# Altium schematic symbol library Connectors - USB DVI HDMI.SchLib: 20 symbols
Pins are listed as number, name and electrical type; pins without a type are passive.

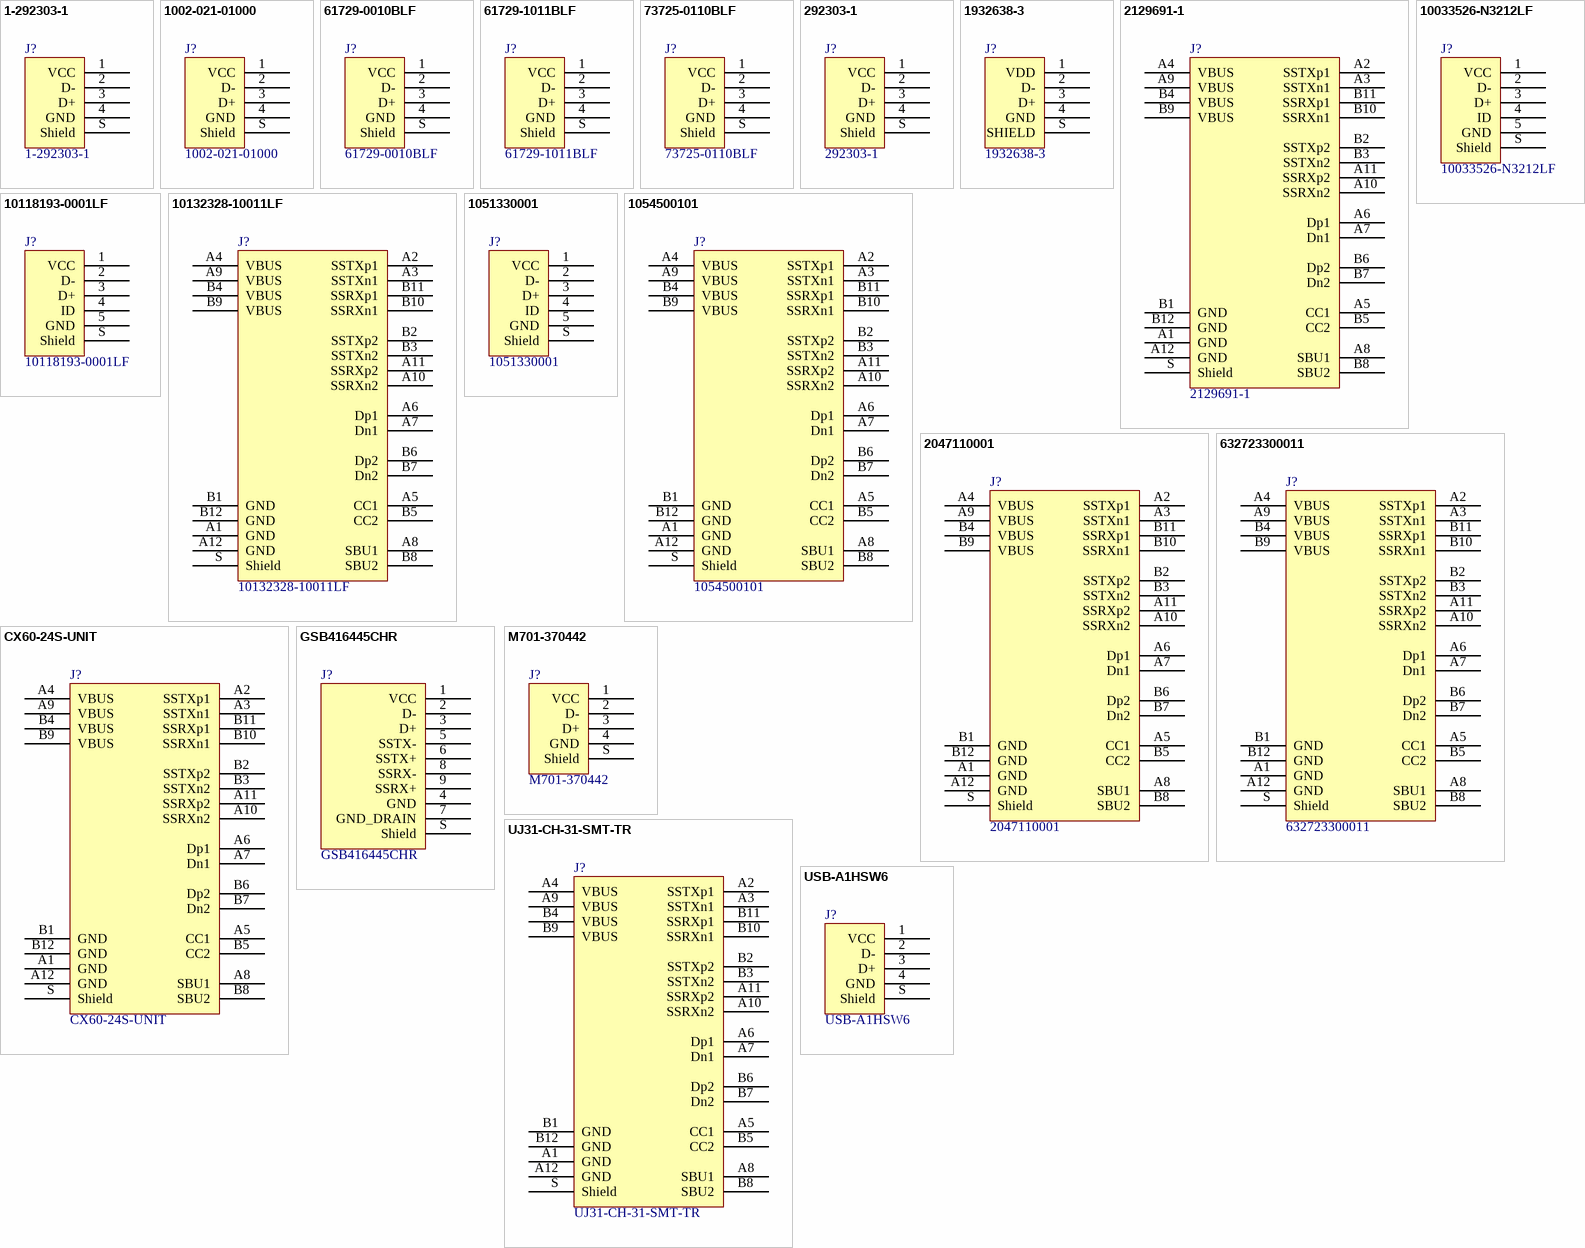
[diagram p0: symbols 1-292303-1 to USB-A1HSW6]

## 1-292303-1
designator J?
CONN RCPT USB2.0 TYPEA 4P SMD RA; Manufacturer: TE Connectivity AMP Connectors; Connector Type: USB - A; Current Rating (Amps): 1A per Contact; Gender: Receptacle; Mating Cycles: 1500; Number of Contacts: 4; Number of Ports: 1; Shielding: Shielded; Voltage - Rated: 30VAC; Part Number: 1-292303-1; ComponentLink1Description: Datasheet; ComponentLink1URL: https://www.te.com/commerce/DocumentDelivery/DDEController?Action=srchrtrv&DocNm=292303&DocType=Customer+Drawing&DocLang=English; ComponentLink2Description: DigiKey Link; ComponentLink2URL: http://digikey.com/product-detail/en/te-connectivity-amp-connectors/1-292303-1/A127890-ND/5273302; Features: Board Lock; LastUpdated: 4/30/2020 11:59:17 AM; Lifecycle Status: Active; Minimum Order: 1; Mounting Feature: Horizontal; Mounting Type: Surface Mount, Right Angle; Through Hole; Operating Temperature: -55°C ~ 85°C; Packaging: Tray; Part Status: Active; Price: 2.37; Series: -; Specifications: USB 2.0; Supplier 1: DigiKey; Supplier Part Number 1: A127890-ND; Termination: Solder
footprint TE 292303-1
pins: 1 VCC, 2 D-, 3 D+, 4 GND, S Shield

## 1002-021-01000
designator J?
CONN RCPT USB2.0 TYPEA 4POS VERT; Manufacturer: CNC Tech; Connector Type: USB - A; Current Rating (Amps): 1.5A; Gender: Receptacle; Mating Cycles: 1500; Number of Contacts: 4; Number of Ports: 1; Voltage - Rated: 30V; Part Number: 1002-021-01000; ComponentLink1Description: Datasheet; ComponentLink1URL: http://www.cnctech.us/pdfs/1002-021-01000.pdf; ComponentLink2Description: DigiKey Link; ComponentLink2URL: http://digikey.com/product-detail/en/cnc-tech/1002-021-01000/1175-1265-ND/3466946; Features: Board Lock; LastUpdated: 4/30/2020 12:00:08 PM; Lifecycle Status: Active; Minimum Order: 1; Mounting Feature: Vertical; Mounting Type: Through Hole; Operating Temperature: -55°C ~ 85°C; Packaging: Tray; Part Status: Active; Price: 1.02; Series: -; Specifications: USB 2.0; Supplier 1: DigiKey; Supplier Part Number 1: 1175-1265-ND; Termination: Solder
footprint CNC TECH 1002-021-01000
pins: 1 VCC, 2 D-, 3 D+, 4 GND, S Shield

## 61729-0010BLF
designator J?
CONN RCPT USB2.0 TYPEB 4POS R/A; Manufacturer: Amphenol ICC (FCI); Connector Type: USB - B; Current Rating (Amps): 1A; Gender: Receptacle; Mating Cycles: 1500; Number of Contacts: 4; Number of Ports: 1; Shielding: Shielded; Part Number: 61729-0010BLF; ComponentLink1Description: Datasheet; ComponentLink1URL: http://www.amphenol-icc.com/media/wysiwyg/files/drawing/61729.pdf; ComponentLink2Description: DigiKey Link; ComponentLink2URL: //digikey.com/product-detail/en/amphenol-icc-fci/61729-0010BLF/609-1039-ND/1001353; Features: Board Lock; LastUpdated: 12/9/2019 8:53:17 PM; Lifecycle Status: 0; Minimum Order: 1; Mounting Feature: Horizontal; Mounting Type: Through Hole, Right Angle; Operating Temperature: -55°C ~ 85°C; Packaging: Tube; Part Status: Active; Price: 0.99; Series: 61729; Specifications: USB 2.0; Supplier 1: DigiKey; Supplier Part Number 1: 609-1039-ND; Termination: Solder
footprint FCI USB 61729-0010BLF
pins: 1 VCC, 2 D-, 3 D+, 4 GND, S Shield

## 61729-1011BLF
designator J?
CONN RCPT USB2.0 TYPEB 4POS R/A; Manufacturer: Amphenol ICC (FCI); Connector Type: USB - B; Current Rating (Amps): 1A; Gender: Receptacle; Mating Cycles: 1500; Number of Contacts: 4; Number of Ports: 1; Shielding: Shielded; Part Number: 61729-1011BLF; ComponentLink1Description: Datasheet; ComponentLink1URL: http://www.amphenol-icc.com/media/wysiwyg/files/drawing/61729.pdf; ComponentLink2Description: DigiKey Link; ComponentLink2URL: //digikey.com/product-detail/en/amphenol-icc-fci/61729-1011BLF/609-3657-ND/1490763; Features: Board Lock; LastUpdated: 12/9/2019 8:52:52 PM; Lifecycle Status: 0; Minimum Order: 1; Mounting Feature: Horizontal; Mounting Type: Through Hole, Right Angle; Operating Temperature: -55°C ~ 85°C; Packaging: Tube; Part Status: Active; Price: 0.99; Series: 61729; Specifications: USB 2.0; Supplier 1: DigiKey; Supplier Part Number 1: 609-3657-ND; Termination: Solder
footprint FCI USB 61729-1011BLF
pins: 1 VCC, 2 D-, 3 D+, 4 GND, S Shield

## 73725-0110BLF
designator J?
CONN RCPT USB2.0 TYPEA 4POS R/A; Manufacturer: Amphenol ICC (FCI); Connector Type: USB - A; Current Rating (Amps): 2.5A; Gender: Receptacle; Mating Cycles: 1500; Number of Contacts: 4; Number of Ports: 1; Shielding: Shielded; Part Number: 73725-0110BLF; ComponentLink1Description: Datasheet; ComponentLink1URL: http://www.amphenol-icc.com/media/wysiwyg/files/drawing/73725.pdf; ComponentLink2Description: DigiKey Link; ComponentLink2URL: http://digikey.com/product-detail/en/amphenol-icc-fci/73725-0110BLF/609-1041-ND/1001355; Features: Board Lock; LastUpdated: 4/30/2020 11:56:05 AM; Lifecycle Status: Active; Minimum Order: 1; Mounting Feature: Vertical; Mounting Type: Through Hole, Right Angle; Operating Temperature: -55°C ~ 85°C; Packaging: Tube; Part Status: Active; Price: 0.91; Series: 73725; Specifications: USB 2.0; Supplier 1: DigiKey; Supplier Part Number 1: 609-1041-ND; Termination: Solder
footprint AMPHENOL USB 73725-0110BLF
pins: 1 VCC, 2 D-, 3 D+, 4 GND, S Shield

## 292303-1
designator J?
CONN RCPT USB2.0 TYPEA 4POS R/A; Manufacturer: TE Connectivity AMP Connectors; Connector Type: USB - A; Current Rating (Amps): 1A per Contact; Gender: Receptacle; Mating Cycles: 1500; Number of Contacts: 4; Number of Ports: 1; Shielding: Shielded; Voltage - Rated: 30VAC; Part Number: 292303-1; ComponentLink1Description: Datasheet; ComponentLink1URL: https://www.te.com/commerce/DocumentDelivery/DDEController?Action=srchrtrv&DocNm=292303&DocType=Customer+Drawing&DocLang=English; ComponentLink2Description: DigiKey Link; ComponentLink2URL: http://digikey.com/product-detail/en/te-connectivity-amp-connectors/292303-1/A31726-ND/773786; Features: Board Lock; LastUpdated: 4/30/2020 11:59:03 AM; Lifecycle Status: Active; Minimum Order: 1; Mounting Feature: Horizontal; Mounting Type: Through Hole, Right Angle; Operating Temperature: -55°C ~ 85°C; Packaging: Tube; Part Status: Active; Price: 1.48; Specifications: USB 2.0; Supplier 1: DigiKey; Supplier Part Number 1: A31726-ND; Termination: Solder
footprint TE 292303-1
pins: 1 VCC, 2 D-, 3 D+, 4 GND, S Shield

## 1932638-3
designator J?
CONN RCPT USB2.0 TYPEA 4P SMD RA; Manufacturer: TE Connectivity AMP Connectors; Connector Type: USB - A; Current Rating (Amps): 1A per Contact; Gender: Receptacle; Mating Cycles: 1500; Number of Contacts: 4; Number of Ports: 1; Shielding: Shielded; Voltage - Rated: 30VAC; Part Number: 1932638-3; ComponentLink1Description: Datasheet; ComponentLink1URL: https://www.te.com/commerce/DocumentDelivery/DDEController?Action=srchrtrv&DocNm=501-60007-1&DocType=SS&DocLang=EN; ComponentLink2Description: DigiKey Link; ComponentLink2URL: //digikey.com/product-detail/en/te-connectivity-amp-connectors/1932638-3/A117902TR-ND/4731612; Features: Solder Retention; LastUpdated: 12/9/2019 8:47:08 PM; Lifecycle Status: 0; Minimum Order: 1; Mounting Feature: Horizontal; Mounting Type: Surface Mount, Right Angle; Operating Temperature: -55°C ~ 85°C; Packaging: TapeAndReel; Part Status: Active; Price: 0.97; Series: -; Specifications: USB 2.0; Supplier 1: DigiKey; Supplier Part Number 1: A117902TR-ND; Termination: Solder
footprint TE 1932638-3 USB2.0A
pins: 1 VDD, 2 D-, 3 D+, 4 GND, S SHIELD

## 2129691-1
designator J?
CONN RCPT USB3.1 TYPEC 24POS SMD; Manufacturer: TE Connectivity AMP Connectors; Connector Type: USB - C (Type - C); Current Rating (Amps): 0.25A, 1.25A, 5A; Gender: Receptacle; Mating Cycles: 10000; Number of Contacts: 24; Number of Ports: 1; Specifications: USB 3.1 (USB 3.1 Gen 2, Superspeed+); Voltage - Rated: 30V; Part Number: 2129691-1; ComponentLink1Description: Datasheet; ComponentLink1URL: //media.digikey.com/pdf/Data%20Sheets/Tyco%20Electonics%20AMP%20PDFs/2129691_Dwg.pdf; ComponentLink2Description: DigiKey Link; ComponentLink2URL: //digikey.com/product-detail/en/te-connectivity-amp-connectors/2129691-1/A122008TR-ND/5401336; LastUpdated: 12/9/2019 8:50:18 PM; Lifecycle Status: 0; Minimum Order: 1; Mounting Feature: Horizontal, Mid Mount; Mounting Type: Board Edge, Cutout; Surface Mount; Through Hole, Right Angle; Operating Temperature: -30°C ~ 85°C; Packaging: TapeAndReel; Part Status: Active; Price: 1.67; Series: -; Supplier 1: DigiKey; Supplier Part Number 1: A122008TR-ND; Termination: Solder
footprint TE USB-C 2129691-1
pins: A1 GND, A2 SSTXp1, A3 SSTXn1, A4 VBUS, A5 CC1, A6 Dp1, A7 Dn1, A8 SBU1, A9 VBUS, A10 SSRXn2, A11 SSRXp2, A12 GND, B1 GND, B2 SSTXp2, B3 SSTXn2, B4 VBUS, B5 CC2, B6 Dp2, B7 Dn2, B8 SBU2, B9 VBUS, B10 SSRXn1, B11 SSRXp1, B12 GND, S Shield

## 10033526-N3212LF
designator J?
CONN RCPT MINI USB B 5POS SMD RA; Manufacturer: Amphenol ICC (FCI); Connector Type: USB - mini B; Current Rating (Amps): 1A per Contact; Gender: Receptacle; Mating Cycles: 5000; Number of Contacts: 5; Number of Ports: 1; Shielding: Shielded; Voltage - Rated: 30V; Part Number: 10033526-N3212LF; ComponentLink1Description: Datasheet; ComponentLink1URL: http://www.amphenol-icc.com/media/wysiwyg/files/drawing/10033526.pdf; ComponentLink2Description: DigiKey Link; ComponentLink2URL: //digikey.com/product-detail/en/amphenol-icc-fci/10033526-N3212LF/609-4700-2-ND/4292074; Features: Board Guide, Solder Retention; LastUpdated: 12/9/2019 8:52:14 PM; Lifecycle Status: 0; Minimum Order: 1; Mounting Feature: Horizontal; Mounting Type: Surface Mount, Right Angle; Operating Temperature: -25°C ~ 85°C; Packaging: TapeAndReel; Part Status: Active; Price: 0.39; Series: -; Supplier 1: DigiKey; Supplier Part Number 1: 609-4700-2-ND; Termination: Solder
footprint FCI USB 10033526-N3212LF
pins: 1 VCC, 2 D-, 3 D+, 4 ID, 5 GND, S Shield

## 10118193-0001LF
designator J?
CONN RCPT USB2.0 MICRO B SMD R/A; Manufacturer: Amphenol ICC (FCI); Connector Type: USB - micro B; Current Rating (Amps): 1.8A per Contact; Gender: Receptacle; Mating Cycles: 10000; Number of Contacts: 5; Number of Ports: 1; Shielding: Shielded; Voltage - Rated: 100VAC; Part Number: 10118193-0001LF; ComponentLink1Description: Datasheet; ComponentLink1URL: https://cdn.amphenol-icc.com/media/wysiwyg/files/documentation/datasheet/inputoutput/io_usb_micro.pdf; ComponentLink2Description: DigiKey Link; ComponentLink2URL: //digikey.com/product-detail/en/amphenol-icc-fci/10118193-0001LF/609-4616-2-ND/2785388; Features: Solder Retention; LastUpdated: 12/9/2019 8:51:28 PM; Lifecycle Status: 0; Minimum Order: 1; Mounting Feature: Horizontal; Mounting Type: Surface Mount, Right Angle; Through Hole; Operating Temperature: -30°C ~ 80°C; Packaging: TapeAndReel; Part Status: Active; Price: 0.21; Series: -; Specifications: USB 2.0; Supplier 1: DigiKey; Supplier Part Number 1: 609-4616-2-ND; Termination: Solder
footprint FCI USB 10118193-0001LF
pins: 1 VCC, 2 D-, 3 D+, 4 ID, 5 GND, S Shield

## 10132328-10011LF
designator J?
CONN RCPT USB3.1 TYPEC 24POS SMD; Manufacturer: Amphenol ICC (FCI); Connector Type: USB - C (Type - C); Gender: Receptacle; Mating Cycles: 10000; Number of Contacts: 24; Number of Ports: 1; Shielding: Shielded; Specifications: USB 3.1 (USB 3.1 Gen 2, Superspeed+); Voltage - Rated: 100VAC; Part Number: 10132328-10011LF; ComponentLink1Description: Datasheet; ComponentLink1URL: http://www.amphenol-icc.com/media/wysiwyg/files/drawing/10132328.pdf; ComponentLink2Description: DigiKey Link; ComponentLink2URL: http://digikey.com/product-detail/en/amphenol-icc-fci/10132328-10011LF/609-5380-1-ND/8555651; Features: Board Guide, Solder Retention; LastUpdated: 6/6/2020 2:13:23 AM; Lifecycle Status: Active; Minimum Order: 1; Mounting Feature: Vertical; Mounting Type: Surface Mount, Through Hole; Operating Temperature: -55°C ~ 85°C; Packaging: TapeAndReel; Part Status: Active; Price: 1.76; Series: -; Supplier 1: DigiKey; Supplier Part Number 1: 609-5380-1-ND; Termination: Solder
footprint Amphenol ICC 10132328-10011LF
pins: A1 GND, A2 SSTXp1, A3 SSTXn1, A4 VBUS, A5 CC1, A6 Dp1, A7 Dn1, A8 SBU1, A9 VBUS, A10 SSRXn2, A11 SSRXp2, A12 GND, B1 GND, B2 SSTXp2, B3 SSTXn2, B4 VBUS, B5 CC2, B6 Dp2, B7 Dn2, B8 SBU2, B9 VBUS, B10 SSRXn1, B11 SSRXp1, B12 GND, S Shield

## 1051330001
designator J?
CONN RCPT USB2.0 MICRO B SMD; Manufacturer: Molex; Connector Type: USB - micro B; Current Rating (Amps): 1A, 1.8A; Gender: Receptacle; Mating Cycles: 10000; Number of Contacts: 5; Number of Ports: 1; Shielding: Shielded; Voltage - Rated: 30VAC; Part Number: 1051330001; ComponentLink1Description: Datasheet; ComponentLink1URL: https://www.molex.com/pdm_docs/sd/1051330001_sd.pdf; ComponentLink2Description: DigiKey Link; ComponentLink2URL: http://digikey.com/product-detail/en/molex/1051330001/WM9734CT-ND/4037910; Features: Pick and Place; LastUpdated: 6/6/2020 2:11:37 AM; Lifecycle Status: Active; Minimum Order: 1; Mounting Feature: Vertical; Mounting Type: Surface Mount; Operating Temperature: -35°C ~ 85°C; Packaging: TapeAndReel; Part Status: Active; Price: 0.63; Series: 105133; Specifications: USB 2.0; Supplier 1: DigiKey; Supplier Part Number 1: WM9734CT-ND; Termination: Solder
footprint MOLEX 1051330001
pins: 1 VCC, 2 D-, 3 D+, 4 ID, 5 GND, S Shield

## 1054500101
designator J?
CONN RCP USB3.1 TYPEC 24P SMD RA; Manufacturer: Molex; Connector Type: USB - C (Type - C); Current Rating (Amps): 0.25A, 1A, 5A; Gender: Receptacle; Mating Cycles: 10000; Number of Contacts: 24; Number of Ports: 1; Shielding: Shielded; Specifications: USB 3.1 (USB 3.1 Gen 2, Superspeed+); Voltage - Rated: 30VAC/DC; Part Number: 1054500101; ComponentLink1Description: Datasheet; ComponentLink1URL: https://www.molex.com/pdm_docs/ps/PS-105448-001.pdf; ComponentLink2Description: DigiKey Link; ComponentLink2URL: http://digikey.com/product-detail/en/molex/1054500101/WM12856CT-ND/5843891; LastUpdated: 6/6/2020 2:14:04 AM; Lifecycle Status: Active; Minimum Order: 1; Mounting Feature: Horizontal; Mounting Type: Surface Mount, Right Angle; Through Hole; Operating Temperature: -30°C ~ 85°C; Packaging: TapeAndReel; Part Status: Active; Price: 1.22; Series: 105445; Supplier 1: DigiKey; Supplier Part Number 1: WM12856CT-ND; Termination: Solder
footprint Molex 1054500101
pins: A1 GND, A2 SSTXp1, A3 SSTXn1, A4 VBUS, A5 CC1, A6 Dp1, A7 Dn1, A8 SBU1, A9 VBUS, A10 SSRXn2, A11 SSRXp2, A12 GND, B1 GND, B2 SSTXp2, B3 SSTXn2, B4 VBUS, B5 CC2, B6 Dp2, B7 Dn2, B8 SBU2, B9 VBUS, B10 SSRXn1, B11 SSRXp1, B12 GND, S Shield

## 2047110001
designator J?
USB VERTICAL TYPE C 3.1; Manufacturer: Molex; Connector Type: USB - C (Type - C); Current Rating (Amps): 0.25A, 1.25A, 5A; Gender: Receptacle; Mating Cycles: 10000; Number of Contacts: 24; Number of Ports: 1; Shielding: Shielded; Specifications: USB 3.1 (USB 3.1 Gen 2, Superspeed+); Voltage - Rated: 30VAC/DC; Part Number: 2047110001; ComponentLink1Description: Datasheet; ComponentLink1URL: https://www.molex.com/webdocs/datasheets/pdf/en-us/2047110001_IO_CONNECTORS.pdf; ComponentLink2Description: DigiKey Link; ComponentLink2URL: http://digikey.com/product-detail/en/molex/2047110001/900-2047110001CT-ND/10440494; Features: Board Lock, Pick and Place Cap; LastUpdated: 6/6/2020 2:12:39 AM; Lifecycle Status: Active; Minimum Order: 1; Mounting Feature: Vertical; Mounting Type: Surface Mount, Through Hole; Operating Temperature: -30°C ~ 85°C; Packaging: CutTape; Part Status: Active; Price: 1.78; Series: 204711; Supplier 1: DigiKey; Supplier Part Number 1: 900-2047110001CT-ND; Termination: Solder
footprint Molex 2047110001
pins: A1 GND, A2 SSTXp1, A3 SSTXn1, A4 VBUS, A5 CC1, A6 Dp1, A7 Dn1, A8 SBU1, A9 VBUS, A10 SSRXn2, A11 SSRXp2, A12 GND, B1 GND, B2 SSTXp2, B3 SSTXn2, B4 VBUS, B5 CC2, B6 Dp2, B7 Dn2, B8 SBU2, B9 VBUS, B10 SSRXn1, B11 SSRXp1, B12 GND, S Shield

## 632723300011
designator J?
CONN RCP USB3.1 TYPEC 24P SMD RA; Manufacturer: Würth Elektronik; Connector Type: USB - C (Type - C); Current Rating (Amps): 5A; Gender: Receptacle; Mating Cycles: 10000; Number of Contacts: 24; Number of Ports: 1; Shielding: Unshielded; Specifications: USB 3.1 (USB 3.1 Gen 2, Superspeed+); Voltage - Rated: 20VDC; Part Number: 632723300011; ComponentLink1Description: Datasheet; ComponentLink1URL: https://katalog.we-online.de/em/datasheet/632723x00011.pdf; ComponentLink2Description: DigiKey Link; ComponentLink2URL: http://digikey.com/product-detail/en/w-rth-elektronik/632723300011/732-9618-1-ND/5806673; LastUpdated: 5/24/2020 10:36:40 PM; Lifecycle Status: Active; Minimum Order: 1; Mounting Feature: Horizontal; Mounting Type: Surface Mount, Right Angle; Through Hole; Operating Temperature: -40°C ~ 105°C; Packaging: TapeAndReel; Part Status: Active; Price: 2.95; Series: WR-COM; Supplier 1: DigiKey; Supplier Part Number 1: 732-9618-1-ND; Termination: Solder
footprint WURTH 632723300011
pins: A1 GND, A2 SSTXp1, A3 SSTXn1, A4 VBUS, A5 CC1, A6 Dp1, A7 Dn1, A8 SBU1, A9 VBUS, A10 SSRXn2, A11 SSRXp2, A12 GND, B1 GND, B2 SSTXp2, B3 SSTXn2, B4 VBUS, B5 CC2, B6 Dp2, B7 Dn2, B8 SBU2, B9 VBUS, B10 SSRXn1, B11 SSRXp1, B12 GND, S Shield

## CX60-24S-UNIT
designator J?
CONN USB 3.1 TYPE C PLUG UNIT; Manufacturer: Hirose Electric Co Ltd; Connector Type: USB - C (Type - C); Current Rating (Amps): 0.25A, 1.25A; Mating Cycles: 10000; Number of Contacts: 24; Number of Ports: 1; Shielding: Shielded; Specifications: USB 3.1 (USB 3.1 Gen 2, Superspeed+); Voltage - Rated: 20VAC; Part Number: CX60-24S-UNIT; ComponentLink1Description: Datasheet; ComponentLink1URL: https://www.hirose.com/product/document?clcode=CL0480-0522-0-00&productname=CX60-SLDA&series=CX&documenttype=Catalog&lang=en&documentid=D52488_en; ComponentLink2Description: DigiKey Link; ComponentLink2URL: http://digikey.com/product-detail/en/hirose-electric-co-ltd/CX60-24S-UNIT/H126317-ND/8561505; Gender: Plug; LastUpdated: 5/24/2020 10:16:49 PM; Lifecycle Status: Active; Minimum Order: 1; Mounting Feature: Horizontal; Mounting Type: Board Edge, Straddle Mount; Operating Temperature: -30°C ~ 85°C; Packaging: Tray; Part Status: Active; Price: 1.86; Series: CX; Supplier 1: DigiKey; Supplier Part Number 1: H126317-ND; Termination: Solder
footprint HIROSE CX60-24S-UNIT
pins: A1 GND, A2 SSTXp1, A3 SSTXn1, A4 VBUS, A5 CC1, A6 Dp1, A7 Dn1, A8 SBU1, A9 VBUS, A10 SSRXn2, A11 SSRXp2, A12 GND, B1 GND, B2 SSTXp2, B3 SSTXn2, B4 VBUS, B5 CC2, B6 Dp2, B7 Dn2, B8 SBU2, B9 VBUS, B10 SSRXn1, B11 SSRXp1, B12 GND, S Shield

## GSB416445CHR
designator J?
CONN PLUG USB3.1 TYPEA 9P SMD RA; Manufacturer: Amphenol ICC (Commercial Products); Connector Type: USB - A; Mating Cycles: 5000; Number of Contacts: 9; Number of Ports: 1; Shielding: Shielded; Specifications: USB 3.1 (USB 3.1 Gen 2, Superspeed+); Part Number: GSB416445CHR; ComponentLink1Description: Datasheet; ComponentLink1URL: //media.digikey.com/pdf/Data%20Sheets/Amphenol%20PDFs/GSB4_Series_USB_31_rev2.pdf; ComponentLink2Description: DigiKey Link; ComponentLink2URL: http://digikey.com/product-detail/en/amphenol-icc-commercial-products/GSB416445CHR/GSB416445CHRCT-ND/4936163; Gender: Plug; LastUpdated: 5/24/2020 10:12:25 PM; Lifecycle Status: Active; Minimum Order: 1; Mounting Feature: Horizontal; Mounting Type: Surface Mount, Right Angle; Through Hole; Packaging: TapeAndReel; Part Status: Active; Price: 0.95; Series: GSB4; Supplier 1: DigiKey; Supplier Part Number 1: GSB416445CHRCT-ND; Termination: Solder
footprint AMPHENOL GSB416445CHR
pins: 1 VCC, 2 D-, 3 D+, 4 GND, 5 SSTX-, 6 SSTX+, 7 GND_DRAIN, 8 SSRX-, 9 SSRX+, S Shield

## M701-370442
designator J?
CONN RCPT USB2.0 TYPEB 4P SMD RA; Manufacturer: Harwin Inc.; Connector Type: USB - B; Current Rating (Amps): 1.5A; Gender: Receptacle; Mating Cycles: 1500; Number of Contacts: 4; Number of Ports: 1; Shielding: Unshielded; Voltage - Rated: 250VAC; Part Number: M701-370442; ComponentLink1Description: Datasheet; ComponentLink1URL: https://cdn.harwin.com/pdfs/M701-370442.pdf; ComponentLink2Description: DigiKey Link; ComponentLink2URL: //digikey.com/product-detail/en/harwin-inc/M701-370442/952-1768-ND/3727737; Features: Board Guide, Solder Retention; LastUpdated: 12/9/2019 8:50:51 PM; Lifecycle Status: 0; Minimum Order: 1; Mounting Feature: Horizontal; Mounting Type: Surface Mount, Right Angle; Packaging: Bulk; Part Status: Active; Price: 1.36; Series: -; Specifications: USB 2.0; Supplier 1: DigiKey; Supplier Part Number 1: 952-1768-ND; Termination: Solder
footprint HARWIN USB M701-370442
pins: 1 VCC, 2 D-, 3 D+, 4 GND, S Shield

## UJ31-CH-31-SMT-TR
designator J?
CONN RCPT USB3.1 TYPEC 24POS R/A; Manufacturer: CUI Devices; Connector Type: USB - C (Type - C); Current Rating (Amps): 0.25A, 1.25A, 5A, 6.25A; Gender: Receptacle; Mating Cycles: 10000; Number of Contacts: 24; Number of Ports: 1; Shielding: Shielded; Specifications: USB 3.1 (USB 3.1 Gen 2, Superspeed+); Voltage - Rated: 20V; Part Number: UJ31-CH-31-SMT-TR; ComponentLink1Description: Datasheet; ComponentLink1URL: https://www.cuidevices.com/product/resource/digikeypdf/uj31-ch-smt.pdf; ComponentLink2Description: DigiKey Link; ComponentLink2URL: http://digikey.com/product-detail/en/cui-devices/UJ31-CH-31-SMT-TR/102-4485-1-ND/8024065; Features: Board Guide; LastUpdated: 5/24/2020 10:49:54 PM; Lifecycle Status: Active; Minimum Order: 1; Mounting Feature: Horizontal; Mounting Type: Surface Mount, Right Angle; Through Hole; Operating Temperature: -30°C ~ 85°C; Packaging: TapeAndReel; Part Status: Active; Price: 0.89; Series: UJ31; Supplier 1: DigiKey; Supplier Part Number 1: 102-4485-1-ND; Termination: Solder
footprint CUI UJ31-CH-31-SMT-TR
pins: A1 GND, A2 SSTXp1, A3 SSTXn1, A4 VBUS, A5 CC1, A6 Dp1, A7 Dn1, A8 SBU1, A9 VBUS, A10 SSRXn2, A11 SSRXp2, A12 GND, B1 GND, B2 SSTXp2, B3 SSTXn2, B4 VBUS, B5 CC2, B6 Dp2, B7 Dn2, B8 SBU2, B9 VBUS, B10 SSRXn1, B11 SSRXp1, B12 GND, S Shield

## USB-A1HSW6
designator J?
CONN RCPT TYPEA 4POS R/A; Manufacturer: On Shore Technology Inc.; Connector Type: USB - A; Current Rating (Amps): 1A; Gender: Receptacle; Number of Contacts: 4; Number of Ports: 1; Shielding: Unshielded; Voltage - Rated: 30VAC; Part Number: USB-A1HSW6; ComponentLink1Description: Datasheet; ComponentLink1URL: http://www.on-shore.com/wp-content/uploads/USB-A1HSXX.pdf; ComponentLink2Description: DigiKey Link; ComponentLink2URL: http://digikey.com/product-detail/en/on-shore-technology-inc/USB-A1HSW6/ED2989-ND/2677750; Features: Board Lock; LastUpdated: 4/30/2020 11:56:44 AM; Lifecycle Status: Active; Minimum Order: 1; Mounting Feature: Horizontal; Mounting Type: Through Hole, Right Angle; Operating Temperature: 0°C ~ 85°C; Packaging: Tray; Part Status: Active; Price: 0.48; Series: -; Supplier 1: DigiKey; Supplier Part Number 1: ED2989-ND; Termination: Solder
footprint ON SHORE TECHNOLOGY USB-A1HSW6
pins: 1 VCC, 2 D-, 3 D+, 4 GND, S Shield